# EAGLE library part DWM1000 (library custom-devices)
DecaWave Ultra-Wideband Module
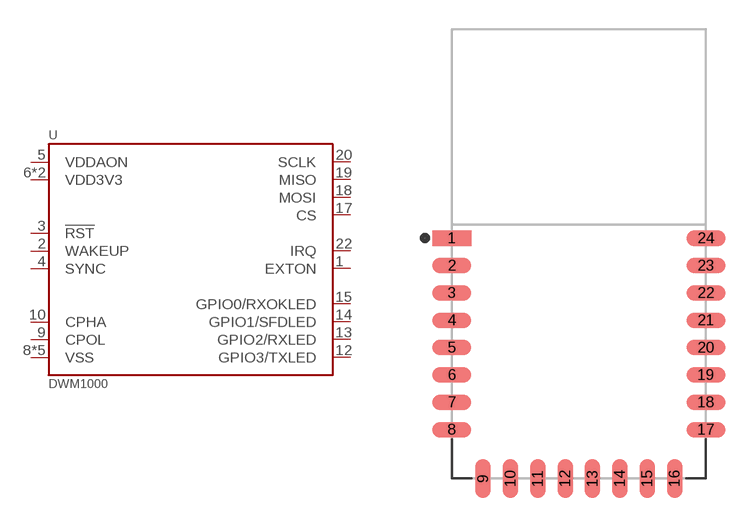
[diagram p5: symbol with the pads of DWM1000; footprint DWM1000]

Designator prefix U

## DWM1000 (DIGI-KEY: 1479-1002-1-ND)  [DWM1000]
1  EXTON  out
2  WAKEUP  in
3  !RST
4  SYNC  in
5  VDDAON  pwr
6  VDD3V3  pwr
7  VDD3V3  pwr
8  VSS
9  CPOL
10  CPHA
12  GPIO3/TXLED
13  GPIO2/RXLED
14  GPIO1/SFDLED
15  GPIO0/RXOKLED
16  VSS
17  CS  in
18  MOSI  in
19  MISO  out
20  SCLK  in
21  VSS
22  IRQ  out
23  VSS
24  VSS

## Footprint DWM1000 (pad centres in mm)
smd 2 x 0.8: 1 -6.5,12.3; 2 -6.5,10.9; 3 -6.5,9.5; 4 -6.5,8.1; 5 -6.5,6.7; 6 -6.5,5.3; 7 -6.5,3.9; 8 -6.5,2.5; 17 6.5,2.5; 18 6.5,3.9; 19 6.5,5.3; 20 6.5,6.7; 21 6.5,8.1; 22 6.5,9.5; 23 6.5,10.9; 24 6.5,12.3
smd 0.8 x 2: 9 -4.9,0; 10 -3.5,0; 11 -2.1,0; 12 -0.7,0; 13 0.7,0; 14 2.1,0; 15 3.5,0; 16 4.9,0